# Altium schematic symbol library SamacSys.SchLib: 12 symbols
Pins are listed as number, name and electrical type; pins without a type are passive.

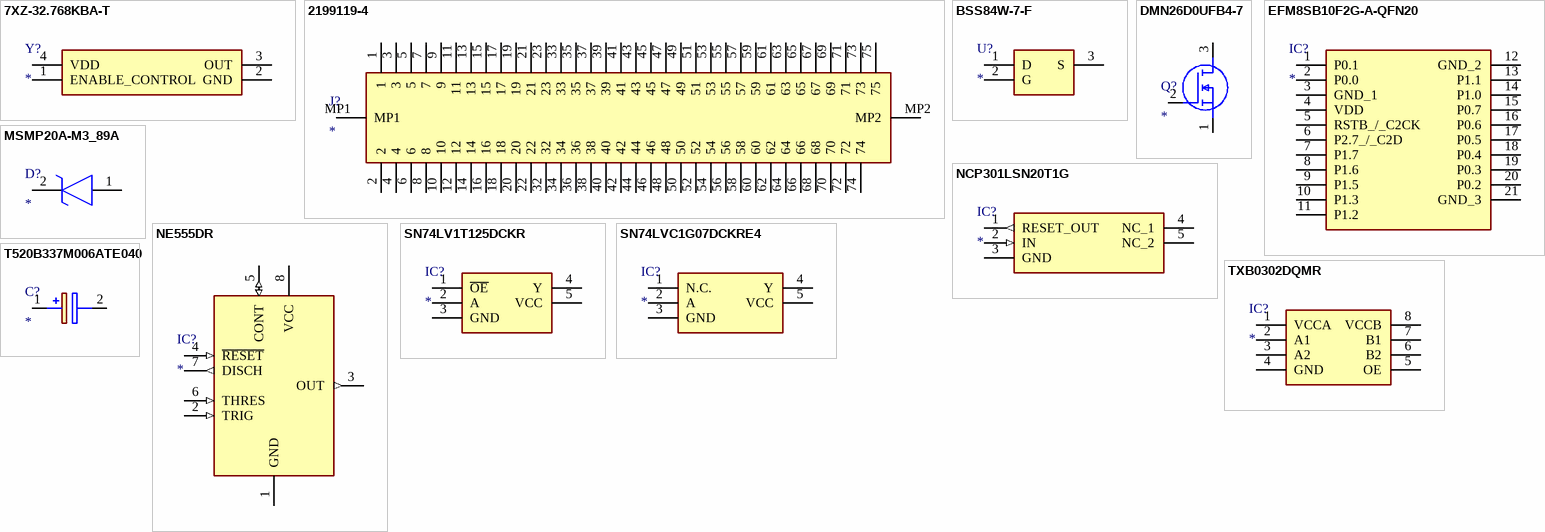
[diagram p0: symbols 7XZ-32.768KBA-T to TXB0302DQMR]

## 7XZ-32.768KBA-T
designator Y?
Crystal or Oscillator; Manufacturer_Name: TXC; Manufacturer_Part_Number: 7XZ-32.768KBA-T; Datasheet Link: http://www.txccrystal.com/images/pdf/7xz.pdf; Height: 1.1mm; Arrow Part Number: 7XZ-32.768KBA-T; Arrow Price/Stock: https://www.arrow.com/en/products/7xz-32.768kba-t/txc-corporation; Mouser Part Number: 717-7XZ-32.768KBA-T; Mouser Price/Stock: https://www.mouser.co.uk/ProductDetail/TXC-Corporation/7XZ-32768KBA-T?qs=AbXXCOATRpiO3D5sgezJGA%3D%3D
footprint 7XZ32768KBAT
pins: 1 ENABLE_CONTROL, 2 GND, 3 OUT, 4 VDD

## 2199119-4
designator J?
Connector; Manufacturer_Name: TE Connectivity; Manufacturer_Part_Number: 2199119-4; Datasheet Link: https://componentsearchengine.com/Datasheets/5/2199119-4.pdf; Height: 3.2mm; Arrow Part Number: 2199119-4; Arrow Price/Stock: https://www.arrow.com/en/products/2199119-4/te-connectivity; Mouser Part Number: 571-2199119-4; Mouser Price/Stock: https://www.mouser.co.uk/ProductDetail/TE-Connectivity/2199119-4?qs=EQCnRgr4b6HleVSqFeBacg%3D%3D
footprint 21991194
pins: 1, 2, 3, 4, 5, 6, 7, 8, 9, 10, 11, 12, 13, 14, 15, 16, 17, 18, 19, 20, 21, 22, 23, 32, 33, 34, 35, 36, 37, 38, 39, 40, 41, 42, 43, 44, 45, 46, 47, 48, 49, 50, 51, 52, 53, 54, 55, 56, 57, 58, 59, 60, 61, 62, 63, 64, 65, 66, 67, 68, 69, 70, 71, 72, 73, 74, 75, MP1, MP2

## BSS84W-7-F
designator U?
Undefined or Miscellaneous; Manufacturer_Name: Diodes Inc.; Manufacturer_Part_Number: BSS84W-7-F; Datasheet Link: http://componentsearchengine.com/Datasheets/1/BSS84W-7-F.pdf; Arrow Part Number: BSS84W-7-F; Arrow Price/Stock: https://www.arrow.com/en/products/bss84w-7-f/diodes-incorporated; Mouser Part Number: 621-BSS84W-F; Mouser Price/Stock: https://www.mouser.co.uk/ProductDetail/Diodes-Incorporated/BSS84W-7-F?qs=C%2FiXDRqWM5gURToIay7bAQ%3D%3D
footprint SOT65P210X110-3N
pins: 1 D, 2 G, 3 S

## DMN26D0UFB4-7
designator Q?
MOSFET (N-Channel); Manufacturer_Name: Diodes Inc.; Manufacturer_Part_Number: DMN26D0UFB4-7; Datasheet Link: https://componentsearchengine.com/Datasheets/1/DMN26D0UFB4-7.pdf; Height: 0.4mm; Arrow Part Number: DMN26D0UFB4-7; Arrow Price/Stock: https://www.arrow.com/en/products/dmn26d0ufb4-7/diodes-incorporated; Mouser Part Number: 621-DMN26D0UFB4-7; Mouser Price/Stock: https://www.mouser.co.uk/ProductDetail/Diodes-Incorporated/DMN26D0UFB4-7?qs=GWgl%252BsiMZr%252B4pznsTuF3iQ%3D%3D
footprint DMN26D0UFB47
pins: 1 S, 2 G, 3 D

## EFM8SB10F2G-A-QFN20
designator IC?
Integrated Circuit; Manufacturer_Name: Silicon Labs; Manufacturer_Part_Number: EFM8SB10F2G-A-QFN20; Datasheet Link: https://www.silabs.com/documents/public/data-sheets/efm8sb1-datasheet.pdf; Height: 0.6mm; Arrow Part Number: EFM8SB10F2G-A-QFN20; Arrow Price/Stock: https://www.arrow.com/en/products/efm8sb10f2g-a-qfn20/silicon-labs; Mouser Part Number: 634-8SB10F2GAQF20; Mouser Price/Stock: https://www.mouser.co.uk/ProductDetail/Silicon-Labs/EFM8SB10F2G-A-QFN20?qs=DCjbIwhU0Zv4HMgdSm4N7w%3D%3D
footprint EFM8SB10F8GAQFN20R
pins: 1 P0.1, 2 P0.0, 3 GND_1, 4 VDD, 5 RSTB_/_C2CK, 6 P2.7_/_C2D, 7 P1.7, 8 P1.6, 9 P1.5, 10 P1.3, 11 P1.2, 12 GND_2, 13 P1.1, 14 P1.0, 15 P0.7, 16 P0.6, 17 P0.5, 18 P0.4, 19 P0.3, 20 P0.2, 21 GND_3

## MSMP20A-M3_89A
designator D?
TVS Diode (Uni-directional); Manufacturer_Name: Vishay; Manufacturer_Part_Number: MSMP20A-M3/89A; Description: ESD Suppressors / TVS Diodes 150W,20V UNIDIR,Micro-SMP TVS; Datasheet Link: https://www.vishay.com/docs/89457/msmp6athrumsmp20a.pdf; Arrow Part Number: MSMP20A-M3/89A; Arrow Price/Stock: https://www.arrow.com/en/products/msmp20a-m389a/vishay; Mouser Part Number: 78-MSMP20A-M389A; Mouser Price/Stock: https://www.mouser.com/Search/Refine.aspx?Keyword=78-MSMP20A-M389A
footprint MICROSMP(ESMP)
pins: 1 A, 2 K

## NCP301LSN20T1G
designator IC?
Integrated Circuit; Manufacturer_Name: ON Semiconductor; Manufacturer_Part_Number: NCP301LSN20T1G; Datasheet Link: http://www.onsemi.com/pub/Collateral/NCP300-D.PDF; Height: 1.1mm; Arrow Part Number: NCP301LSN20T1G; Arrow Price/Stock: https://www.arrow.com/en/products/ncp301lsn20t1g/on-semiconductor; Mouser Part Number: 863-NCP301LSN20T1G; Mouser Price/Stock: https://www.mouser.co.uk/ProductDetail/ON-Semiconductor/NCP301LSN20T1G?qs=%2FugrpAKHX8q7C9Mzamhz3w%3D%3D
footprint SOT95P275X110-5N
pins: 1 RESET_OUT (out), 2 IN (in), 3 GND (power), 4 NC_1, 5 NC_2

## NE555DR
designator IC?
Integrated Circuit; Manufacturer_Name: Texas Instruments; Manufacturer_Part_Number: NE555DR; Datasheet Link: http://www.ti.com/lit/ds/symlink/ne555.pdf; Height: 1.75mm; Mouser Part Number: 595-NE555DR; Mouser Price/Stock: https://www.mouser.com/Search/Refine.aspx?Keyword=595-NE555DR; RS Part Number: 1218414; RS Price/Stock: http://uk.rs-online.com/web/p/products/1218414
footprint SOIC127P600X175-8N
pins: 1 GND (power), 2 TRIG (in), 3 OUT (out), 4 ~{RESET} (in), 5 CONT (io), 6 THRES (in), 7 DISCH (out), 8 VCC (power)

## SN74LV1T125DCKR
designator IC?
Integrated Circuit; Manufacturer_Name: Texas Instruments; Manufacturer_Part_Number: SN74LV1T125DCKR; Datasheet Link: http://www.ti.com/lit/gpn/sn74lv1t125; Height: 1.1mm; Arrow Part Number: SN74LV1T125DCKR; Arrow Price/Stock: https://www.arrow.com/en/products/sn74lv1t125dckr/texas-instruments; Mouser Part Number: 595-SN74LV1T125DCKR; Mouser Price/Stock: https://www.mouser.co.uk/ProductDetail/Texas-Instruments/SN74LV1T125DCKR?qs=8sOby8ZxZLEEpIbhoTKj7w%3D%3D
footprint SOT65P210X110-5N
pins: 1 ~{OE}, 2 A, 3 GND, 4 Y, 5 VCC

## SN74LVC1G07DCKRE4
designator IC?
Integrated Circuit; Manufacturer_Name: Texas Instruments; Manufacturer_Part_Number: SN74LVC1G07DCKRE4; Datasheet Link: http://www.ti.com/lit/ds/symlink/sn74lvc1g07.pdf; Height: 1.1mm; Arrow Part Number: SN74LVC1G07DCKRE4; Arrow Price/Stock: https://www.arrow.com/en/products/sn74lvc1g07dckre4/texas-instruments; Mouser Part Number: 595-SN74LVC1G07DCKE4; Mouser Price/Stock: https://www.mouser.co.uk/ProductDetail/Texas-Instruments/SN74LVC1G07DCKRE4?qs=pajgIaoyDUhxFR39KLTAuA%3D%3D
footprint SOT65P210X110-5N
pins: 1 N.C., 2 A, 3 GND, 4 Y, 5 VCC

## T520B337M006ATE040
designator C?
Capacitor Polarised; Manufacturer_Name: Kemet; Manufacturer_Part_Number: T520B337M006ATE040; Datasheet Link: http://componentsearchengine.com/Datasheets/2/T520B337M006ATE040.pdf; Height: 2.1mm; Arrow Part Number: T520B337M006ATE040; Arrow Price/Stock: https://www.arrow.com/en/products/t520b337m006ate040/kemet-corporation; Mouser Part Number: 80-T520B337M06ATE040; Mouser Price/Stock: https://www.mouser.com/Search/Refine.aspx?Keyword=80-T520B337M06ATE040
footprint CAPPM3528X210N
pins: 1 +, 2 -

## TXB0302DQMR
designator IC?
Integrated Circuit; Manufacturer_Name: Texas Instruments; Manufacturer_Part_Number: TXB0302DQMR; Datasheet Link: http://www.ti.com/lit/gpn/txb0302; Height: 0.4mm; Arrow Part Number: TXB0302DQMR; Arrow Price/Stock: https://www.arrow.com/en/products/txb0302dqmr/texas-instruments; Mouser Part Number: 595-TXB0302DQMR; Mouser Price/Stock: https://www.mouser.co.uk/ProductDetail/Texas-Instruments/TXB0302DQMR?qs=5771e39Rz9HEpqtrmqNQ0Q%3D%3D
footprint SON40P120X180X40-8N
pins: 1 VCCA, 2 A1, 3 A2, 4 GND, 5 OE, 6 B2, 7 B1, 8 VCCB